# EAGLE library part LTC3526 (library chips)
Low power boost converter IC
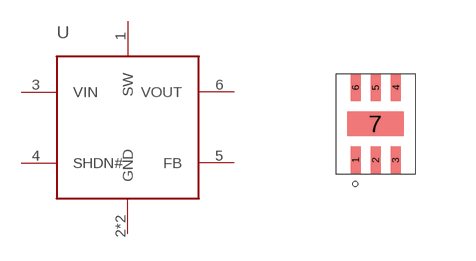
[diagram p25: symbol with the pads of DFN-6/2MM; footprint DFN-6/2MM]

Designator prefix -

## LTC3526 (DIGIKEY: LTC3526LEDC#TRMPBFCT-ND)  [DFN-6/2MM]
1  SW
2  GND
3  VIN
4  SHDN#
5  FB
6  VOUT
7  GND

## Footprint DFN-6/2MM (pad centres in mm)
smd 0.25 x 0.675: 1 -0.5,-0.91; 2 0,-0.91; 3 0.5,-0.91; 4 0.51,0.91; 5 0,0.91; 6 -0.5,0.91
smd 1.42 x 0.61: 7 0,0